# Altium footprint library ece components.PcbLib: 102 footprints (part 4 of 7)
Each footprint in its own frame and in the unit in brackets; x right, y up, seen from the top. Pads: shape width x height; smd on the part's side, far side on the other; paste and mask are expansions set on the pad; w line width, h text height; cw(c..) or ccw(c..) is an arc to the next point about the centre after c.
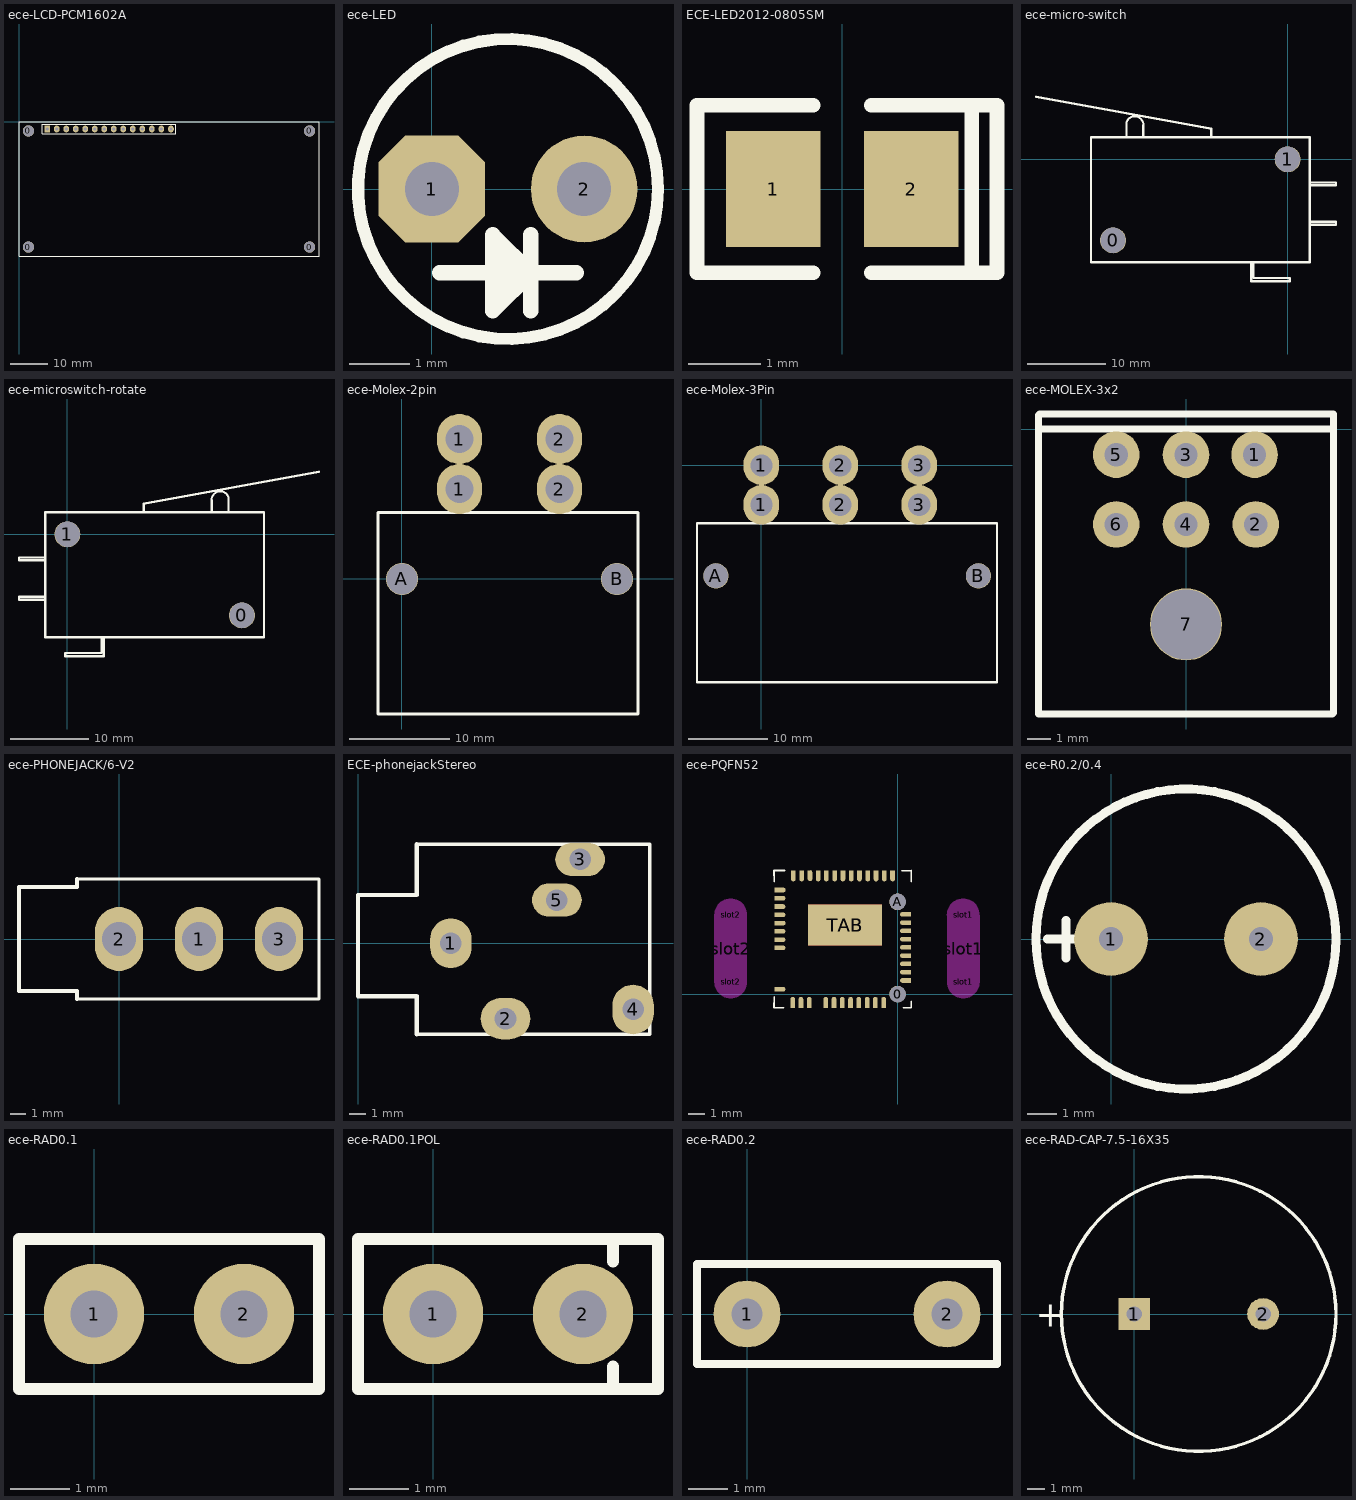
[diagram p3: the footprints below, top view; thin cyan lines are the x and y axes]

## ece-LCD-PCM1602A [mm]
pads (18):
  round 3 hole 3: 0(2.5,-33.5) 0(2.5,-2.5) 0(77.5,-33.5) 0(77.5,-2.5)
  rect 1.5x1.8 hole 0.9: 1(7.5,-2)
  oval 1.5x1.8 hole 0.9: 2(10.04,-2) 3(12.58,-2) 4(15.12,-2) 5(17.66,-2) 6(20.2,-2) 7(22.74,-2) 8(25.28,-2) 9(27.82,-2) 10(30.36,-2) 11(32.9,-2) 12(35.44,-2) 13(37.98,-2) 14(40.52,-2)
Top Overlay:
  lines w0.2: 75.6,0 0,0 ; 0,0 80,0 80,-36 0,-36 0,0 ; 6.23,-3.27 6.23,-0.73 8.135,-0.73 41.79,-0.73 41.79,-3.27 6.23,-3.27

## ece-LED [mil]
pads (2):
  oct 70x70 hole 35.43: 1(0,0)
  round 70 hole 35.43: 2(100,0)
Top Overlay:
  circle w8: c50,0 r98.42
  lines w10: 5,-55 95,-55 ; 49.69,-70.31 49.69,-40.31 50,-40 ; 65,-80 65,-30 ; 40,-80 40,-30 65,-55 40,-80

## ECE-LED2012-0805SM [mm] "SMD LED, Body; 2mm x 1.25 mm (LxW)"
height 1
pads (2):
  rect 1.3x1.6 smd: 1(-0.95,0) 2(0.95,0)
Top Overlay:
  lines w0.2: -0.4,-1.15 -2,-1.15 -2,1.15 -0.4,1.15 ; 0.4,-1.15 2.13,-1.15 2.13,1.15 0.4,1.15 ; 1.78,-1.15 1.78,1.15

## ece-micro-switch [mm]
height 10
pads (2):
  round 3.3 hole 3.2: 0(-22.2,-10.3) 1(0,0)
Top Overlay:
  lines w0.254: -20.5,4.7 cw(c-19.45,4.35) -18.343,4.35
  lines w0.3: -32,7.95 -9.7,3.9 -9.7,2.8 ; -20.5,2.85 -20.5,4.65 ; -18.343,2.807 -18.343,4.35 ; -9.8,2.8 -25,2.8 ; -4.65,-13.1 -4.65,-15.5 0.25,-15.5 0.25,-15.15 0.3,-15.1 -4.3,-15.1 -4.35,-15.05 -4.35,-13.1 ; 2.8,-8.3 6.1,-8.3 6.15,-8.25 6.15,-7.95 2.8,-7.95 ; 2.8,-3.3 6.1,-3.3 6.15,-3.25 6.15,-2.95 2.8,-2.95 ; -25,2.8 -25,-13.1 2.8,-13.1 2.8,2.8 -25,2.8

## ece-microswitch-rotate [mm]
pads (2):
  round 3.3 hole 3.2: 0(22.2,-10.3) 1(0,0)
Top Overlay:
  lines w0.254: 18.343,4.35 cw(c19.45,4.35) 20.5,4.7
  lines w0.3: -2.8,-8.3 -6.1,-8.3 -6.15,-8.25 -6.15,-7.95 -2.8,-7.95 ; -2.8,-3.3 -6.1,-3.3 -6.15,-3.25 -6.15,-2.95 -2.8,-2.95 ; 4.35,-13.1 4.35,-15.05 4.3,-15.1 -0.3,-15.1 -0.25,-15.15 -0.25,-15.5 4.65,-15.5 4.65,-13.1 ; 9.7,2.8 9.7,3.9 32,7.95 ; 9.8,2.8 25,2.8 ; 18.343,2.807 18.343,4.35 ; 20.5,2.85 20.5,4.65 ; 25,2.8 -2.8,2.8 -2.8,-13.1 25,-13.1 25,2.8

## ece-Molex-2pin [mm] "series 42820"
pads (6):
  oval 4.5x5 hole 2.8: 1(5.75,9) 1(5.75,14) 2(15.75,9) 2(15.75,14)
  round 3.2 hole 3.1: A(0,0) B(21.5,0)
Top Overlay:
  lines w0.3: -2.4,-13.5 23.6,-13.5 23.6,6.65 -2.4,6.65 -2.4,-13.5

## ece-Molex-3Pin [mm] "Series 42820"
pads (8):
  oval 4.5x5 hole 2.8: 1(0,-5) 1(0,0) 2(10,-5) 2(10,0) 3(20,-5) 3(20,0)
  round 3.2 hole 3.1: A(-5.75,-14) B(27.5,-14)
Top Overlay:
  lines w0.3: -8.15,-27.5 29.85,-27.5 29.85,-7.35 -8.15,-7.35 -8.15,-27.5

## ece-MOLEX-3x2 [mm] "series 43045"
pads (7):
  round 2 hole 1: 1(2.95,-1.1) 2(3,-4.1) 3(0,-1.1) 4(0,-4.1) 5(-3,-1.1) 6(-3,-4.1)
  round 3.1 hole 3: 7(0,-8.4)
Top Overlay:
  lines w0.3: -5.4,0 3.25,0 ; -6.35,0 0,0 6.35,0 ; -6.35,0 -6.35,-12.25 6.3,-12.25 6.35,-12.2 6.35,0 ; -6.35,0 -6.35,0.6 -6.3,0.65 6.35,0.65 6.35,0

## ece-PHONEJACK/6-V2 [mil]
pads (3):
  oval 120x160 hole 85: 1(200,0) 2(0,0) 3(400,0)
Top Overlay:
  lines w7.87: -105,-150 500,-150 500,150 -105,150
  lines w10: -105,-150 -105,-130 -250,-130 -250,130 -105,130 -105,150

## ECE-phonejackStereo [mm]
pads (5):
  oval 2.5x3 hole 1.3: 1(5.6,0) 4(16.6,-4)
  oval 3x2.5 hole 1.3: 2(8.9,-4.55)
  oval 3x2 hole 1.3: 3(13.4,5.05) 5(12,2.6)
Top Overlay:
  lines w0.2: 3.55,-5.5 17.6,-5.5 17.6,5.966 3.55,5.966
  lines w0.254: 3.55,-5.5 3.55,-3.192 ; 3.55,-3.2 0,-3.2 0,2.9 3.55,2.9 ; 3.55,2.908 3.55,5.966

## ece-PQFN52 [mm]
pads (186):
  round 1 hole 1: 0(0,0) 0(0,0) A(0,5.57) A(0,5.57)
  oval 0.66x0.28 smd: 1(0.48,0.82) 1(0.48,0.82) 2(0.48,1.32) 2(0.48,1.32) 3(0.48,1.82) 3(0.48,1.82) 4(0.48,2.32) 4(0.48,2.32) 5(0.48,2.82) 5(0.48,2.82) 6(0.48,3.32) 6(0.48,3.32) 7(0.48,3.82) 7(0.48,3.82) 8(0.48,4.32) 8(0.48,4.32) 9(0.48,4.82) 9(0.48,4.82) 23(-7.1,6.29) 23(-7.1,6.29) 24(-7.11,5.79) 24(-7.11,5.79) 25(-7.11,5.29) 25(-7.11,5.29) 26(-7.11,4.79) 26(-7.11,4.79) 27(-7.1,4.29) 27(-7.1,4.29) 28(-7.11,3.79) 28(-7.11,3.79) 29(-7.11,3.29) 29(-7.11,3.29) 30(-7.11,2.79) 30(-7.11,2.79) 31(-7.11,0.29) 31(-7.11,0.29)
  rect 0.28x0.28 smd: 1(0.67,0.82) 1(0.67,0.82) 2(0.67,1.32) 2(0.67,1.32) 3(0.67,1.82) 3(0.67,1.82) 4(0.67,2.32) 4(0.67,2.32) 5(0.67,2.82) 5(0.67,2.82) 6(0.67,3.32) 6(0.67,3.32) 7(0.67,3.82) 7(0.67,3.82) 8(0.67,4.32) 8(0.67,4.32) 9(0.67,4.82) 9(0.67,4.82) 10(-0.3,7.33) 10(-0.3,7.33) 11(-0.8,7.33) 11(-0.8,7.33) 12(-1.3,7.33) 12(-1.3,7.33) 13(-1.8,7.33) 13(-1.8,7.33) 14(-2.3,7.33) 14(-2.3,7.33) 15(-2.8,7.33) 15(-2.8,7.33) 16(-3.3,7.33) 16(-3.3,7.33) 17(-3.8,7.33) 17(-3.8,7.33) 18(-4.3,7.33) 18(-4.3,7.33) 19(-4.8,7.33) 19(-4.8,7.33) 20(-5.3,7.33) 20(-5.3,7.33) 21(-5.8,7.33) 21(-5.8,7.33) 22(-6.3,7.33) 22(-6.3,7.33) 23(-7.3,6.29) 23(-7.3,6.29) 24(-7.3,5.79) 24(-7.3,5.79) 25(-7.3,5.29) 25(-7.3,5.29) 26(-7.3,4.79) 26(-7.3,4.79) 27(-7.3,4.29) 27(-7.3,4.29) 28(-7.3,3.79) 28(-7.3,3.79) 29(-7.3,3.29) 29(-7.3,3.29) 30(-7.3,2.79) 30(-7.3,2.79) 31(-7.3,0.29) 31(-7.3,0.29) 32(-6.34,-0.69) 32(-6.34,-0.69) 33(-5.84,-0.69) 33(-5.84,-0.69) 34(-5.34,-0.69) 34(-5.34,-0.69) 35(-4.34,-0.69) 35(-4.34,-0.69) 36(-3.84,-0.69) 36(-3.84,-0.69) 37(-3.34,-0.69) 37(-3.34,-0.69) 38(-2.84,-0.69) 38(-2.84,-0.69) 39(-2.34,-0.69) 39(-2.34,-0.69) 40(-1.84,-0.69) 40(-1.84,-0.69) 41(-1.34,-0.69) 41(-1.34,-0.69) 42(-0.84,-0.69) 42(-0.84,-0.69)
  oval 0.28x0.66 smd: 10(-0.3,7.14) 10(-0.3,7.14) 11(-0.8,7.14) 11(-0.8,7.14) 12(-1.3,7.14) 12(-1.3,7.14) 13(-1.8,7.14) 13(-1.8,7.14) 14(-2.3,7.14) 14(-2.3,7.14) 15(-2.8,7.14) 15(-2.8,7.14) 16(-3.3,7.14) 16(-3.3,7.14) 17(-3.8,7.14) 17(-3.8,7.14) 18(-4.3,7.14) 18(-4.3,7.14) 19(-4.8,7.14) 19(-4.8,7.14) 20(-5.29,7.155) 20(-5.29,7.155) 21(-5.8,7.14) 21(-5.8,7.14) 22(-6.3,7.14) 22(-6.3,7.14) 32(-6.34,-0.5) 32(-6.34,-0.5) 33(-5.84,-0.5) 33(-5.84,-0.5) 34(-5.34,-0.5) 34(-5.34,-0.5) 35(-4.34,-0.5) 35(-4.34,-0.5) 36(-3.84,-0.5) 36(-3.84,-0.5) 37(-3.34,-0.5) 37(-3.34,-0.5) 38(-2.84,-0.5) 38(-2.84,-0.5) 39(-2.34,-0.5) 39(-2.34,-0.5) 40(-1.84,-0.5) 40(-1.84,-0.5) 41(-1.34,-0.5) 41(-1.34,-0.5) 42(-0.84,-0.5) 42(-0.84,-0.5)
  round 2 on Keep-Out: slot1(3.97,4.79) slot1(3.97,4.79) slot1(3.98,0.73) slot1(3.98,0.73) slot2(-10.09,0.73) slot2(-10.09,0.73) slot2(-10.09,4.79) slot2(-10.09,4.79)
  rect 2x4.07 on Keep-Out: slot1(3.98,2.74) slot1(3.98,2.74) slot2(-10.09,2.75) slot2(-10.09,2.75)
  rect 4.49x2.47 smd: TAB(-3.17,4.17) TAB(-3.17,4.17)
Top Layer:
  region: -5.41,5.41 -0.94,5.41 -0.94,2.94 -5.41,2.94 -5.41,5.41
  region: -5.41,5.41 -0.94,5.41 -0.94,2.94 -5.41,2.94 -5.41,5.41
Top Overlay:
  lines w0.05: 0.83,-0.83 0.83,-0.83 ; 0.83,-0.83 0.83,-0.83 ; 0.83,-0.83 0.83,-0.83 ; 0.83,-0.83 0.83,-0.83
  lines w0.1: -7.47,-0.83 -6.87,-0.83 -7.47,-0.83 ; -7.47,-0.83 -7.46,-0.16 -7.47,-0.83 ; -7.47,7.47 -6.81,7.47 -7.47,7.47 ; -7.47,7.47 -7.46,6.79 -7.47,7.47 ; 0.83,-0.83 0.83,-0.44 0.83,-0.83 ; 0.83,-0.83 0.35,-0.83 0.83,-0.83 ; 0.83,7.47 0.83,6.8 0.83,7.47 ; 0.83,7.47 0.25,7.46 0.83,7.47

## ece-R0.2/0.4 [mm]
pads (2):
  round 2.5 hole 0.8: 1(0,0) 2(5.08,0)
Top Overlay:
  circle w0.305: c2.54,0 r5.08
  lines w0.305: -2.159,0 -0.889,0 ; -1.524,-0.635 -1.524,0.635

## ece-RAD0.1 [mm]
pads (2):
  round 1.7 hole 0.8: 1(0,0) 2(2.54,0)
Top Overlay:
  lines w0.2: -1.27,-1.27 -1.27,1.27 3.81,1.27 3.81,-1.27 -1.27,-1.27

## ece-RAD0.1POL [mm]
pads (2):
  round 1.7 hole 0.8: 1(0,0) 2(2.54,0)
Top Overlay:
  lines w0.2: -1.27,-1.27 -1.27,1.27 3.81,1.27 3.81,-1.27 -1.27,-1.27
  lines w0.203: 3.048,-1.27 3.048,-0.889 ; 3.048,0.889 3.048,1.27

## ece-RAD0.2 [mm]
pads (2):
  round 1.7 hole 0.8: 1(0,0) 2(5.08,0)
Top Overlay:
  lines w0.2: -1.27,-1.27 6.35,-1.27 6.35,1.27 -1.27,1.27 -1.27,-1.27

## ece-RAD-CAP-7.5-16X35 [mm]
pads (2):
  rect 1.85x1.85 hole 0.9: 1(0,0)
  round 1.85 hole 0.9: 2(7.5,0)
Top Overlay:
  circle w0.2: c3.75,0 r8
  text "+" at -5.725,-0.75 h1.5